# EAGLE library part TES3-4810WI (library TES3-4810WI)
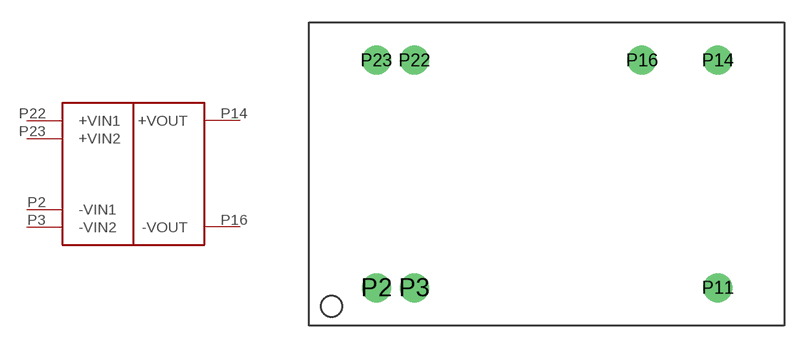
[diagram p0: symbol with the pads of TES3-4810WI; footprint TES3-4810WI]

Designator prefix -

## TES3-4810WI (OC_RS: 801-9330)  [TES3-4810WI]
P2  -VIN1  pas
P3  -VIN2  pas
P14  +VOUT  pas
P16  -VOUT  pas
P22  +VIN1  pwr
P23  +VIN2  pwr

## Footprint TES3-4810WI (pad centres in mm)
drill 0.7 pad 1.93: P2 0,-15.24; P3 2.54,-15.24; P11 22.86,-15.24; P14 22.86,0; P16 17.78,0; P22 2.54,0; P23 0,0